# Altium footprint library MMCX-P-P-X-ST-TH1.PcbLib: 1 footprints
Each footprint in its own frame and in the unit in brackets; x right, y up, seen from the top. Pads: shape width x height; smd on the part's side, far side on the other; paste and mask are expansions set on the pad; w line width, h text height; cw(c..) or ccw(c..) is an arc to the next point about the centre after c.
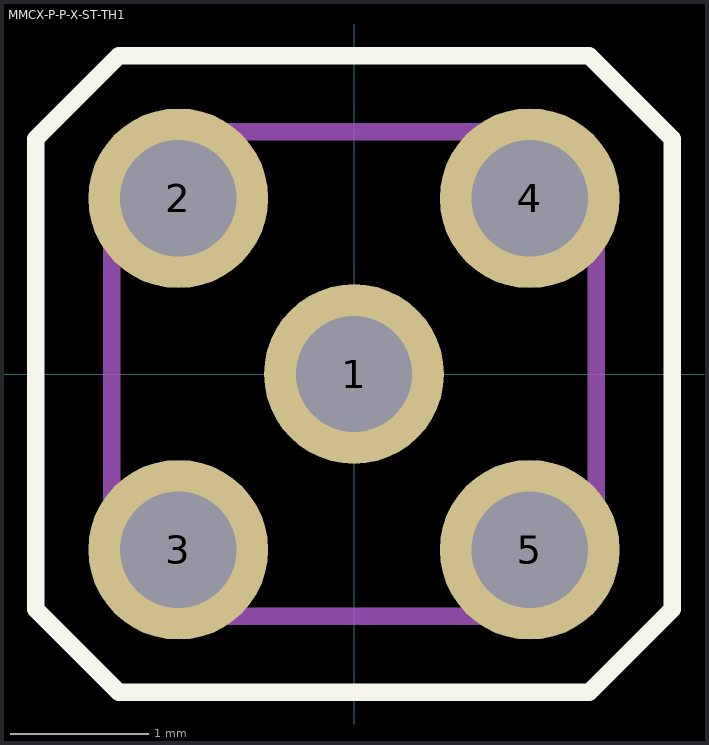
[diagram p0: the footprint, top view; thin cyan lines are the x and y axes]

## MMCX-P-P-X-ST-TH1 [mm]
pads (5):
  round 1.3 hole 0.84: 1(0,0) 2(-1.27,1.27) 3(-1.27,-1.27) 4(1.27,1.27) 5(1.27,-1.27)
Top Overlay:
  lines w0.127: -2.3,-1.7 -2.3,1.7 -1.7,2.3 1.7,2.3 2.3,1.7 2.3,-1.7 1.7,-2.3 -1.7,-2.3 -2.3,-1.7
Mechanical 1:
  lines w0.127: -1.75,-1.41 -1.75,1.41 -1.41,1.75 1.41,1.75 1.75,1.41 1.75,-1.41 1.41,-1.75 -1.41,-1.75 -1.75,-1.41